# EAGLE library part AMPHENOL_2X3_2.54MM (library CurrentSensing)
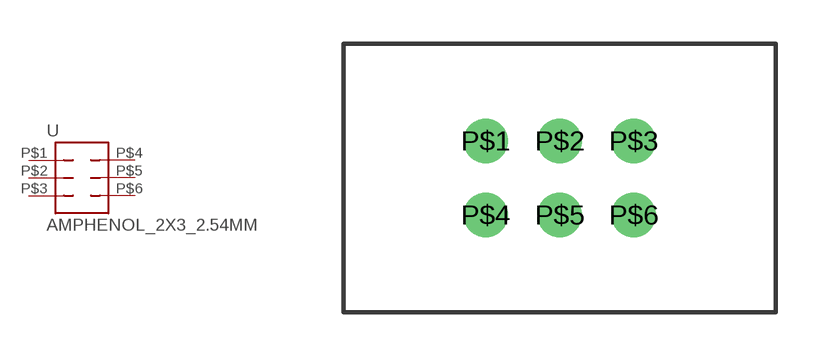
[diagram p3: symbol with the pads of AMPHENOL_2X3_2.54MM; footprint AMPHENOL_2X3_2.54MM]

Designator prefix -

## AMPHENOL_2X3_2.54MM  [AMPHENOL_2X3_2.54MM]
P$1  6  pas
P$2  4  pas
P$3  2  pas
P$4  5  pas
P$5  3  pas
P$6  1  pas

## Footprint AMPHENOL_2X3_2.54MM (pad centres in mm)
AMPHENOL_2X3_2.44MM Shrouded 75869-131LF
drill 1.02: P$1 -2.54,1.27; P$2 0,1.27; P$3 2.54,1.27; P$4 -2.54,-1.27; P$5 0,-1.27; P$6 2.54,-1.27